# EAGLE library part L293D (library mECustom)
L293D H-Bridge Motor Driver IC 600mA continuous, 1A pulsed current supply Socket: DIL16 - SOCKET
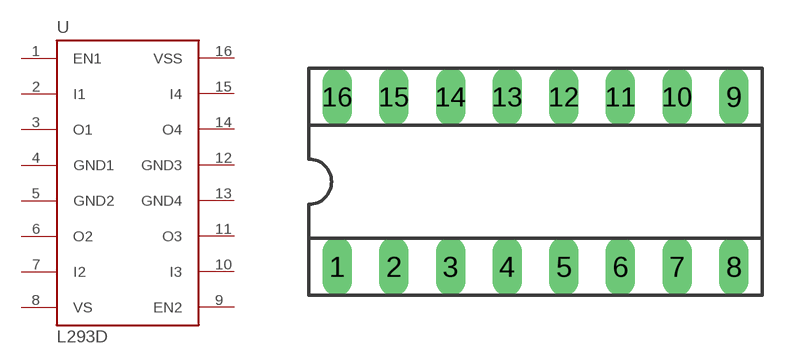
[diagram p5: symbol with the pads of SOCKET16; footprint SOCKET16]

Designator prefix -

## L293D  [SOCKET16]
1  EN1  in
2  I1  in
3  O1  out
4  GND1  pwr
5  GND2  pwr
6  O2  out
7  I2  in
8  VS  pwr
9  EN2  in
10  I3  in
11  O3  out
12  GND3  pwr
13  GND4  pwr
14  O4  out
15  I4  in
16  VSS  pwr

## Footprint SOCKET16 (pad centres in mm)
drill 0.813 long: 1 -7.62,-3.81; 2 -5.08,-3.81; 3 -2.54,-3.81; 4 0,-3.81; 5 2.54,-3.81; 6 5.08,-3.81; 7 7.62,-3.81; 8 10.16,-3.81; 9 10.16,3.81; 10 7.62,3.81; 11 5.08,3.81; 12 2.54,3.81; 13 0,3.81; 14 -2.54,3.81; 15 -5.08,3.81; 16 -7.62,3.81